# Altium schematic symbol library WL-ICLED.SchLib: 6 symbols
Pins are listed as number, name and electrical type; pins without a type are passive.

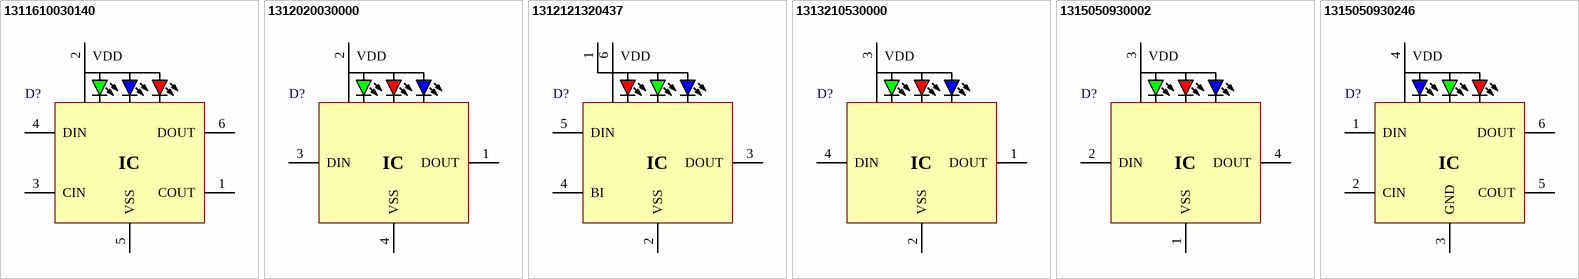
[diagram p0: symbols 1311610030140 to 1315050930246]

## 1311610030140
designator D?  (value not drawn)
WL-ICLED Integrated Controller within LED, SMT, Chip LED 1616 Dual, 6mA; Manufacturer: Wurth Elektronik; Dominant Wavelength (Blue): 470nm; Dominant Wavelength (Green): 525nm; Dominant Wavelength (Red): 625nm; Emitting Color: Green & Blue & Red; Frequency of the PWM: 20kHz; Luminous Intensity (Blue): 50mcd; Luminous Intensity (Green): 120mcd; Luminous Intensity (Red): 80mcd; Peak Wavelength (Blue): 465nm; Peak Wavelength (Green): 520nm; Peak Wavelength (Red): 630nm; Viewing Angle: 120°; Manufacturer Part Number: 1311610030140; Category: IC LEDs; Match Code: WL-ICLED; ComponentLink1Description: Website Link; ComponentLink1URL: https://www.we-online.com/redexpert/article/1311610030140?ad; ComponentLink2Description: Datasheet Link; ComponentLink2URL: https://www.we-online.com/redexpert/spec/1311610030140?ad; Mount: Surface Mount; Min Operating Temperature: -40°C; Max Operating Temperature: 85°C; Packaging: Tape and Reel; Case/Size Code: Chip LED 1616 Dual; Length: 1.6mm; Width: 1.6mm; Height: 0.9mm; IC Output Current: 6mA
footprint 1311610030140
pins: 1 COUT, 2 VDD, 3 CIN, 4 DIN, 5 VSS, 6 DOUT
text: IC

## 1312020030000
designator D?  (value not drawn)
WL-ICLED Integrated Controller within LED, SMT, Chip LED 2020, 5.5mA; Manufacturer: Wurth Elektronik; Dominant Wavelength (Blue): 470nm; Dominant Wavelength (Green): 525nm; Dominant Wavelength (Red): 625nm; Emitting Color: Green & Red & Blue; Frequency of the PWM: 5kHz; Luminous Intensity (Blue): 50mcd; Luminous Intensity (Green): 120mcd; Luminous Intensity (Red): 80mcd; Peak Wavelength (Blue): 465nm; Peak Wavelength (Green): 520nm; Peak Wavelength (Red): 630nm; Viewing Angle: 120°; Manufacturer Part Number: 1312020030000; Category: IC LEDs; Match Code: WL-ICLED; ComponentLink1Description: Website Link; ComponentLink1URL: https://www.we-online.com/redexpert/article/1312020030000?ad; ComponentLink2Description: Datasheet Link; ComponentLink2URL: https://www.we-online.com/redexpert/spec/1312020030000?ad; Mount: Surface Mount; Min Operating Temperature: -40°C; Max Operating Temperature: 85°C; Packaging: Tape and Reel; Case/Size Code: Chip LED 2020; Length: 2mm; Width: 2mm; Height: 0.9mm; IC Output Current: 5.5mA
footprint 1312020030000
pins: 1 DOUT, 2 VDD, 3 DIN, 4 VSS
text: IC

## 1312121320437
designator D?  (value not drawn)
WL-ICLED Integrated Controller within LED, SMT, PLCC 6 2121, 20mA; Manufacturer: Wurth Elektronik; Dominant Wavelength (Blue): 470nm; Dominant Wavelength (Green): 525nm; Dominant Wavelength (Red): 625nm; Emitting Color: Red & Green & Blue; Frequency of the PWM: 0.6kHz; Luminous Intensity (Blue): 240mcd; Luminous Intensity (Green): 1000mcd; Luminous Intensity (Red): 600mcd; Peak Wavelength (Blue): 465nm; Peak Wavelength (Green): 520nm; Peak Wavelength (Red): 630nm; Viewing Angle: 110°; Manufacturer Part Number: 1312121320437; Category: IC LEDs; Match Code: WL-ICLED; ComponentLink1Description: Website Link; ComponentLink1URL: https://www.we-online.com/redexpert/article/1312121320437?ad; ComponentLink2Description: Datasheet Link; ComponentLink2URL: https://www.we-online.com/redexpert/spec/1312121320437?ad; Mount: Surface Mount; Min Operating Temperature: -40°C; Max Operating Temperature: 85°C; Packaging: Tape and Reel; Case/Size Code: PLCC 6 2121; Length: 2.2mm; Width: 2.2mm; Height: 1.1mm; IC Output Current: 20mA
footprint 1312121320437
pins: 1 VDD, 2 VSS, 3 DOUT, 4 BI, 5 DIN, 6 VDD
text: IC

## 1313210530000
designator D?  (value not drawn)
WL-ICLED Integrated Controller within LED, SMT, Side View 3210, 5.5mA; Manufacturer: Wurth Elektronik; Dominant Wavelength (Blue): 470nm; Dominant Wavelength (Green): 525nm; Dominant Wavelength (Red): 625nm; Emitting Color: Green & Red & Blue; Frequency of the PWM: 5kHz; Luminous Intensity (Blue): 50mcd; Luminous Intensity (Green): 120mcd; Luminous Intensity (Red): 80mcd; Peak Wavelength (Blue): 465nm; Peak Wavelength (Green): 520nm; Peak Wavelength (Red): 630nm; Viewing Angle: 120°; Manufacturer Part Number: 1313210530000; Category: IC LEDs; Match Code: WL-ICLED; ComponentLink1Description: Website Link; ComponentLink1URL: https://www.we-online.com/redexpert/article/1313210530000?ad; ComponentLink2Description: Datasheet Link; ComponentLink2URL: https://www.we-online.com/redexpert/spec/1313210530000?ad; Mount: Surface Mount; Min Operating Temperature: -40°C; Max Operating Temperature: 85°C; Packaging: Tape and Reel; Case/Size Code: Side View 3210; Length: 3.2mm; Width: 1.5mm; Height: 1mm; IC Output Current: 5.5mA
footprint 1313210530000
pins: 1 DOUT, 2 VSS, 3 VDD, 4 DIN
text: IC

## 1315050930002
designator D?  (value not drawn)
WL-ICLED Integrated Controller within LED, SMT, PLCC 4 5050, 13mA; Manufacturer: Wurth Elektronik; Dominant Wavelength (Blue): 470nm; Dominant Wavelength (Green): 525nm; Dominant Wavelength (Red): 625nm; Emitting Color: Green & Red & Blue; Frequency of the PWM: 2.5kHz; Luminous Intensity (Blue): 260mcd; Luminous Intensity (Green): 1300mcd; Luminous Intensity (Red): 450mcd; Peak Wavelength (Blue): 465nm; Peak Wavelength (Green): 520nm; Peak Wavelength (Red): 630nm; Viewing Angle: 120°; Manufacturer Part Number: 1315050930002; Category: IC LEDs; Match Code: WL-ICLED; ComponentLink1Description: Website Link; ComponentLink1URL: https://www.we-online.com/redexpert/article/1315050930002?ad; ComponentLink2Description: Datasheet Link; ComponentLink2URL: https://www.we-online.com/redexpert/spec/1315050930002?ad; Mount: Surface Mount; Min Operating Temperature: -40°C; Max Operating Temperature: 85°C; Packaging: Tape and Reel; Case/Size Code: PLCC 4 5050; Length: 5mm; Width: 5mm; Height: 1.58mm; IC Output Current: 13mA
footprint 1315050930002
pins: 1 VSS, 2 DIN, 3 VDD, 4 DOUT
text: IC

## 1315050930246
designator D?  (value not drawn)
WL-ICLED Integrated Controller within LED, SMT, PLCC 6 5050 Dual, 21mA; Manufacturer: Wurth Elektronik; Dominant Wavelength (Blue): 470nm; Dominant Wavelength (Green): 525nm; Dominant Wavelength (Red): 625nm; Emitting Color: Blue & Green & Red; Frequency of the PWM: 20kHz; Luminous Intensity (Blue): 400mcd; Luminous Intensity (Green): 1800mcd; Luminous Intensity (Red): 800mcd; Peak Wavelength (Blue): 465nm; Peak Wavelength (Green): 520nm; Peak Wavelength (Red): 630nm; Viewing Angle: 120°; Manufacturer Part Number: 1315050930246; Category: IC LEDs; Match Code: WL-ICLED; ComponentLink1Description: Website Link; ComponentLink1URL: https://www.we-online.com/redexpert/article/1315050930246?ad; ComponentLink2Description: Datasheet Link; ComponentLink2URL: https://www.we-online.com/redexpert/spec/1315050930246?ad; Mount: Surface Mount; Min Operating Temperature: -40°C; Max Operating Temperature: 85°C; Packaging: Tape and Reel; Case/Size Code: PLCC 6 5050 Dual; Length: 5mm; Width: 5mm; Height: 1.6mm; IC Output Current: 21mA
footprint 1315050930246
pins: 1 DIN, 2 CIN, 3 GND, 4 VDD, 5 COUT, 6 DOUT
text: IC